# Altium footprint library SILX7.PcbLib: 1 footprints
Each footprint in its own frame and in the unit in brackets; x right, y up, seen from the top. Pads: shape width x height; smd on the part's side, far side on the other; paste and mask are expansions set on the pad; w line width, h text height; cw(c..) or ccw(c..) is an arc to the next point about the centre after c.
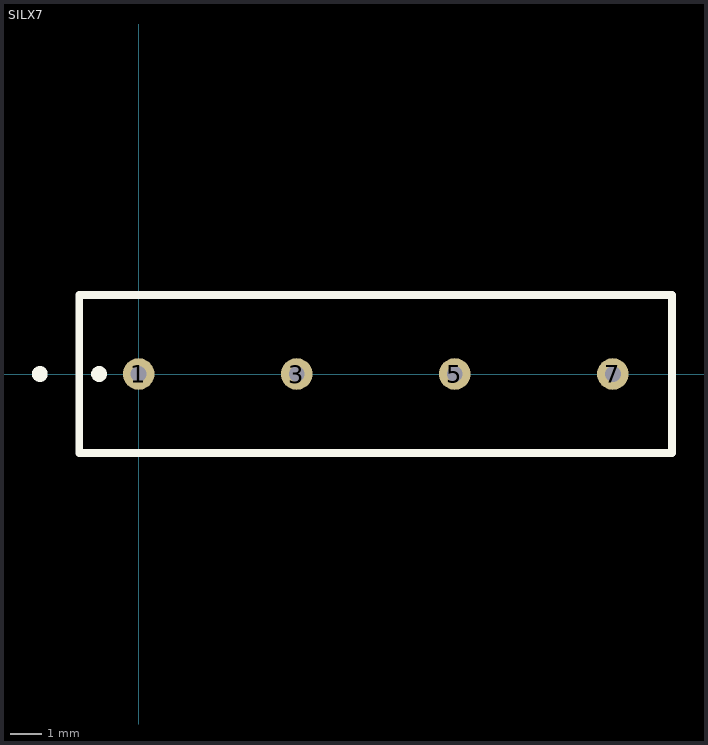
[diagram p0: the footprint, top view; thin cyan lines are the x and y axes]

## SILX7 [mil]
pads (4):
  round 40 hole 20: 1(0,0) 3(200,0) 5(400,0) 7(600,0)
Top Overlay:
  circle w10: c-50,0 r5
  circle w10: c-125,0 r5
  lines w10: -75,-100 675,-100 675,100 -75,100 -75,-100